# Altium footprint library Connectors.PcbLib: 8 footprints
Each footprint in its own frame and in the unit in brackets; x right, y up, seen from the top. Pads: shape width x height; smd on the part's side, far side on the other; paste and mask are expansions set on the pad; w line width, h text height; cw(c..) or ccw(c..) is an arc to the next point about the centre after c.
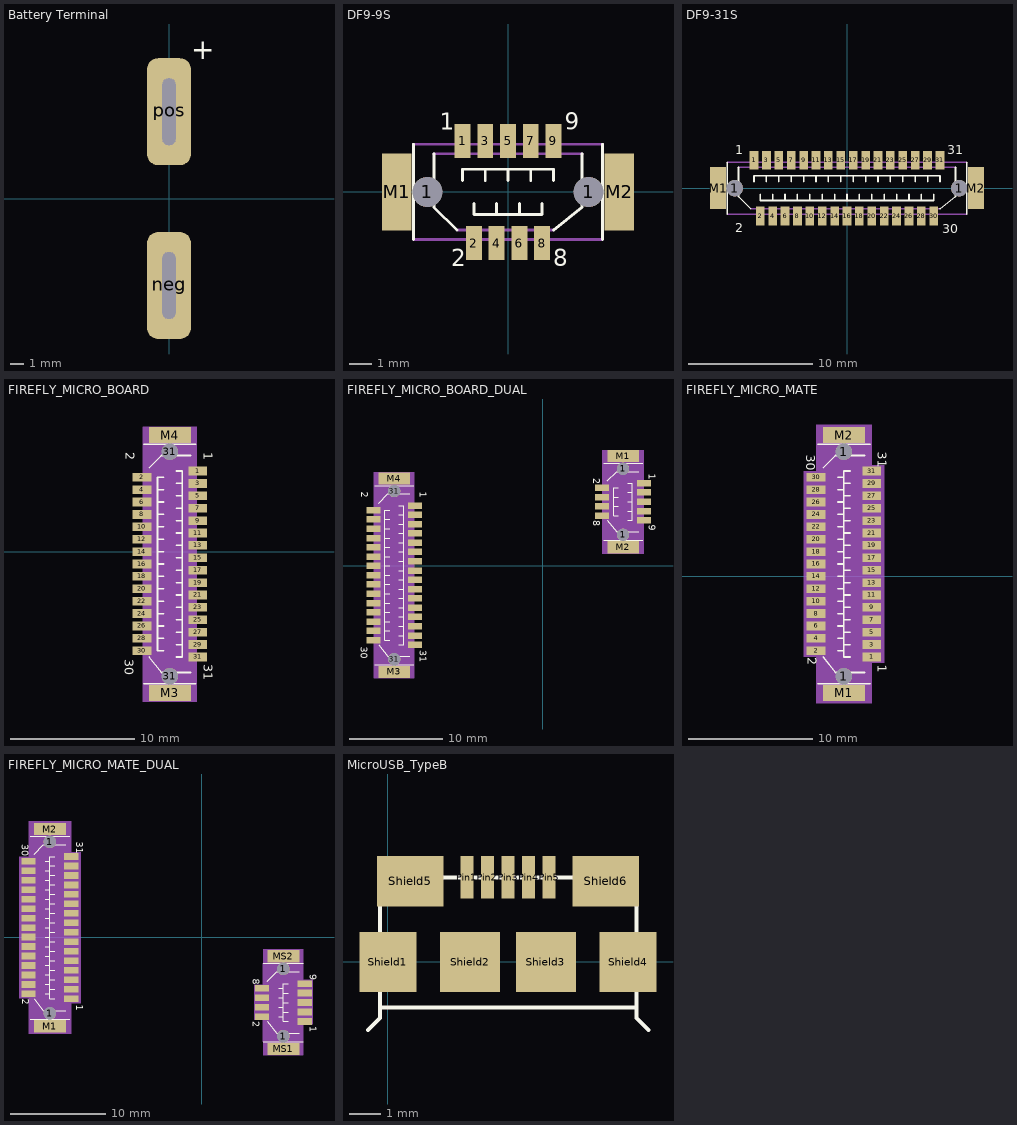
[diagram p0: the footprints below, top view; thin cyan lines are the x and y axes]

## Battery Terminal [mm] "Battery terminal for the firefly case"
pads (2):
  rrect50% 3.3x8 hole 1 slot 5 at 90 deg: neg(0,-6.5) pos(0,6.5)
Top Overlay:
  text "+" at 1.651,10.414 h1.52

## DF9-9S [mil]
pads (13):
  round 52 hole 52: 1(-139.76,0) 1(139.76,0)
  rect 27.56x59.06 smd: 1(-78.74,88.58) 2(-59.06,-88.58) 3(-39.37,88.58) 4(-19.69,-88.58) 5(0,88.58) 6(19.69,-88.58) 7(39.37,88.58) 8(59.06,-88.58) 9(78.74,88.58)
  rect 51.18x133.86 smd: M1(-192.91,0) M2(192.91,0)
Top Overlay:
  lines w5: -163.39,-82.68 -163.39,82.68 ; -127.95,66.14 -127.95,-26.77 -88.58,-66.14 ; -78.74,19.69 -78.74,39.37 -39.37,39.37 ; -59.06,-19.69 -59.06,-39.37 -19.69,-39.37 ; -39.37,19.69 -39.37,39.37 ; -19.69,-19.69 -19.69,-39.37 ; 0,19.69 0,39.37 ; 19.69,-19.69 19.69,-39.37 ; 39.37,19.69 39.37,39.37 ; 59.06,-19.69 59.06,-39.37 19.69,-39.37 ; 78.74,-66.14 127.95,-26.77 127.95,66.14 ; 78.74,19.69 78.74,39.37 39.37,39.37 ; 163.39,-82.68 163.39,82.68 ; -39.37,39.37 0,39.37 ; -19.69,-39.37 19.69,-39.37 ; 0,39.37 39.37,39.37
  text "1" at -118.11,98.43 h49.6
  text "2" at -98.43,-137.8 h49.6
  text "8" at 78.74,-137.8 h49.6
  text "9" at 98.43,98.43 h49.6
Mechanical 16:
  lines w5: -163.39,-82.68 163.39,-82.68 ; -163.39,82.68 163.39,82.68 ; -127.95,66.14 127.95,66.14 ; -88.58,-66.14 78.74,-66.14

## DF9-31S [mm]
pads (35):
  round 1.321 hole 1.321: 1(-9.05,0) 1(9.05,0)
  rect 0.7x1.5 smd: 1(-7.5,2.25) 2(-7,-2.25) 3(-6.5,2.25) 4(-6,-2.25) 5(-5.5,2.25) 6(-5,-2.25) 7(-4.5,2.25) 8(-4,-2.25) 9(-3.5,2.25) 10(-3,-2.25) 11(-2.5,2.25) 12(-2,-2.25) 13(-1.5,2.25) 14(-1,-2.25) 15(-0.5,2.25) 16(0,-2.25) 17(0.5,2.25) 18(1,-2.25) 19(1.5,2.25) 20(2,-2.25) 21(2.5,2.25) 22(3,-2.25) 23(3.5,2.25) 24(4,-2.25) 25(4.5,2.25) 26(5,-2.25) 27(5.5,2.25) 28(6,-2.25) 29(6.5,2.25) 30(7,-2.25) 31(7.5,2.25)
  rect 1.3x3.4 smd: M1(-10.4,0) M2(10.4,0)
Top Overlay:
  lines w0.127: -9.65,-2.1 -9.65,2.1 ; -8.75,1.68 -8.75,-0.68 -7.75,-1.68 ; -7.5,0.5 -7.5,1 -6.5,1 ; -7,-0.5 -7,-1 -6,-1 ; -6.5,0.5 -6.5,1 ; -6,-0.5 -6,-1 ; -5.5,0.5 -5.5,1 ; -5,-0.5 -5,-1 ; -4.5,0.5 -4.5,1 ; -4,-0.5 -4,-1 ; -3.5,0.5 -3.5,1 ; -3,-0.5 -3,-1 ; -2.5,0.5 -2.5,1 ; -2,-0.5 -2,-1 ; -1.5,0.5 -1.5,1 ; -1,-0.5 -1,-1 ; -0.5,0.5 -0.5,1 ; 0,-0.5 0,-1 ; 0.5,0.5 0.5,1 ; 1,-0.5 1,-1 ; 1.5,0.5 1.5,1 ; 2,-0.5 2,-1 ; 2.5,0.5 2.5,1 ; 3,-0.5 3,-1 ; 3.5,0.5 3.5,1 ; 4,-0.5 4,-1 ; 4.5,0.5 4.5,1 ; 5,-0.5 5,-1 ; 5.5,0.5 5.5,1 ; 6,-0.5 6,-1 ; 6.5,0.5 6.5,1 ; 7,-0.5 7,-1 6,-1 ; 7.5,-1.68 8.75,-0.68 8.75,1.68 ; 7.5,0.5 7.5,1 6.5,1 ; 9.65,-2.1 9.65,2.1 ; -6.5,1 -5.5,1 ; -6,-1 -5,-1 ; -5.5,1 -4.5,1 ; -5,-1 -4,-1 ; -4.5,1 -3.5,1 ; -4,-1 -3,-1 ; -3.5,1 -2.5,1 ; -3,-1 -2,-1 ; -2.5,1 -1.5,1 ; -2,-1 -1,-1 ; -1.5,1 -0.5,1 ; -1,-1 0,-1 ; -0.5,1 0.5,1 ; 0,-1 1,-1 ; 0.5,1 1.5,1 ; 1,-1 2,-1 ; 1.5,1 2.5,1 ; 2,-1 3,-1 ; 2.5,1 3.5,1 ; 3,-1 4,-1 ; 3.5,1 4.5,1 ; 4,-1 5,-1 ; 4.5,1 5.5,1 ; 5,-1 6,-1 ; 5.5,1 6.5,1
  text "31" at 8.1,2.5 h1.26
  text "30" at 7.7,-3.9 h1.26
  text "2" at -9,-3.8 h1.26
  text "1" at -9,2.5 h1.26
Mechanical 16:
  lines w0.127: -9.65,-2.1 9.65,-2.1 ; -9.65,2.1 9.65,2.1 ; -8.75,1.68 8.75,1.68 ; -7.75,-1.68 7.5,-1.68

## FIREFLY_MICRO_BOARD [mil]
pads (35):
  rect 59.06x27.56 smd: 1(-541.67,255.86) 2(-718.83,236.17) 3(-541.67,216.49) 4(-718.83,196.8) 5(-541.67,177.12) 6(-718.83,157.43) 7(-541.67,137.75) 8(-718.83,118.06) 9(-541.67,98.38) 10(-718.83,78.69) 11(-541.67,59.01) 12(-718.83,39.32) 13(-541.67,19.64) 14(-718.83,-0.05) 15(-541.67,-19.73) 16(-718.83,-39.42) 17(-541.67,-59.1) 18(-718.83,-78.79) 19(-541.67,-98.47) 20(-718.83,-118.16) 21(-541.67,-137.84) 22(-718.83,-157.53) 23(-541.67,-177.21) 24(-718.83,-196.9) 25(-541.67,-216.58) 26(-718.83,-236.27) 27(-541.67,-255.95) 28(-718.83,-275.64) 29(-541.67,-295.32) 30(-718.83,-315.01) 31(-541.67,-334.69)
  round 52 hole 52: 31(-630.25,-395.72) 31(-630.25,316.88)
  rect 133.86x51.18 smd: M3(-630.25,-448.87) M4(-630.25,370.03)
Top Overlay:
  lines w5: -712.93,-419.34 -547.57,-419.34 ; -712.93,340.5 -547.57,340.5 ; -696.39,-334.69 -657.02,-383.91 -564.11,-383.91 ; -696.39,265.7 -657.02,305.07 -564.11,305.07 ; -649.94,-315.01 -669.62,-315.01 -669.62,-275.64 ; -649.94,-275.64 -669.62,-275.64 ; -649.94,-236.27 -669.62,-236.27 ; -649.94,-196.9 -669.62,-196.9 ; -649.94,-157.53 -669.62,-157.53 ; -649.94,-118.16 -669.62,-118.16 ; -649.94,-78.79 -669.62,-78.79 ; -649.94,-39.42 -669.62,-39.42 ; -649.94,-0.05 -669.62,-0.05 ; -649.94,39.32 -669.62,39.32 ; -649.94,78.69 -669.62,78.69 ; -649.94,118.06 -669.62,118.06 ; -649.94,157.43 -669.62,157.43 ; -649.94,196.8 -669.62,196.8 ; -649.94,236.17 -669.62,236.17 -669.62,196.8 ; -610.57,-334.69 -590.88,-334.69 -590.88,-295.32 ; -610.57,-295.32 -590.88,-295.32 ; -610.57,-255.95 -590.88,-255.95 ; -610.57,-216.58 -590.88,-216.58 ; -610.57,-177.21 -590.88,-177.21 ; -610.57,-137.84 -590.88,-137.84 ; -610.57,-98.47 -590.88,-98.47 ; -610.57,-59.1 -590.88,-59.1 ; -610.57,-19.73 -590.88,-19.73 ; -610.57,19.64 -590.88,19.64 ; -610.57,59.01 -590.88,59.01 ; -610.57,98.38 -590.88,98.38 ; -610.57,137.75 -590.88,137.75 ; -610.57,177.12 -590.88,177.12 ; -610.57,216.49 -590.88,216.49 ; -610.57,255.86 -590.88,255.86 -590.88,216.49 ; -669.62,-275.64 -669.62,-236.27 ; -669.62,-236.27 -669.62,-196.9 ; -669.62,-196.9 -669.62,-157.53 ; -669.62,-157.53 -669.62,-118.16 ; -669.62,-118.16 -669.62,-78.79 ; -669.62,-78.79 -669.62,-39.42 ; -669.62,-39.42 -669.62,-0.05 ; -669.62,-0.05 -669.62,39.32 ; -669.62,39.32 -669.62,78.69 ; -669.62,78.69 -669.62,118.06 ; -669.62,118.06 -669.62,157.43 ; -669.62,157.43 -669.62,196.8 ; -590.88,-295.32 -590.88,-255.95 ; -590.88,-255.95 -590.88,-216.58 ; -590.88,-216.58 -590.88,-177.21 ; -590.88,-177.21 -590.88,-137.84 ; -590.88,-137.84 -590.88,-98.47 ; -590.88,-98.47 -590.88,-59.1 ; -590.88,-59.1 -590.88,-19.73 ; -590.88,-19.73 -590.88,19.64 ; -590.88,19.64 -590.88,59.01 ; -590.88,59.01 -590.88,98.38 ; -590.88,98.38 -590.88,137.75 ; -590.88,137.75 -590.88,177.12 ; -590.88,177.12 -590.88,216.49
  text "1" at -531.83,314.91 h49.6
  text "2" at -779.86,314.91 h49.6
  text "30" at -783.8,-342.57 h49.6
  text "31" at -531.83,-358.32 h49.6
Mechanical 16:
  lines w5: -712.93,-419.34 -712.93,340.5 ; -696.39,-334.69 -696.39,265.7 ; -564.11,-383.91 -564.11,305.07 ; -547.57,-419.34 -547.57,340.5
Mechanical 27:
  rectangle: -717.24,-477.02 -544.01,396.99
3D body "DF9-31S-1V.stp": height 129.92, standoff -31.5, extent -740.49,-453.87 -520.02,376.84

## FIREFLY_MICRO_BOARD_DUAL [mil]
pads (48):
  rect 59.06x27.56 smd: 1(-541.67,255.86) 2(-718.83,236.17) 3(-541.67,216.49) 4(-718.83,196.8) 5(-541.67,177.12) 6(-718.83,157.43) 7(-541.67,137.75) 8(-718.83,118.06) 9(-541.67,98.38) 10(-718.83,78.69) 11(-541.67,59.01) 12(-718.83,39.32) 13(-541.67,19.64) 14(-718.83,-0.05) 15(-541.67,-19.73) 16(-718.83,-39.42) 17(-541.67,-59.1) 18(-718.83,-78.79) 19(-541.67,-98.47) 20(-718.83,-118.16) 21(-541.67,-137.84) 22(-718.83,-157.53) 23(-541.67,-177.21) 24(-718.83,-196.9) 25(-541.67,-216.58) 26(-718.83,-236.27) 27(-541.67,-255.95) 28(-718.83,-275.64) 29(-541.67,-295.32) 30(-718.83,-315.01) 31(-541.67,-334.69) P1(428.11,350.66) P2(250.94,330.98) P3(428.11,311.29) P4(250.94,291.61) P5(428.11,271.92) P6(250.94,252.24) P7(428.11,232.55) P8(250.94,212.87) P9(428.11,193.18)
  round 52 hole 52: 1(339.53,132.16) 1(339.53,411.69) 31(-630.25,-395.72) 31(-630.25,316.88)
  rect 133.86x51.18 smd: M1(339.53,464.83) M2(339.53,79.01) M3(-630.25,-448.87) M4(-630.25,370.03)
Top Overlay:
  lines w5: -712.93,-419.34 -547.57,-419.34 ; -712.93,340.5 -547.57,340.5 ; -696.39,-334.69 -657.02,-383.91 -564.11,-383.91 ; -696.39,265.7 -657.02,305.07 -564.11,305.07 ; -649.94,-315.01 -669.62,-315.01 -669.62,-275.64 ; -649.94,-275.64 -669.62,-275.64 ; -649.94,-236.27 -669.62,-236.27 ; -649.94,-196.9 -669.62,-196.9 ; -649.94,-157.53 -669.62,-157.53 ; -649.94,-118.16 -669.62,-118.16 ; -649.94,-78.79 -669.62,-78.79 ; -649.94,-39.42 -669.62,-39.42 ; -649.94,-0.05 -669.62,-0.05 ; -649.94,39.32 -669.62,39.32 ; -649.94,78.69 -669.62,78.69 ; -649.94,118.06 -669.62,118.06 ; -649.94,157.43 -669.62,157.43 ; -649.94,196.8 -669.62,196.8 ; -649.94,236.17 -669.62,236.17 -669.62,196.8 ; -610.57,-334.69 -590.88,-334.69 -590.88,-295.32 ; -610.57,-295.32 -590.88,-295.32 ; -610.57,-255.95 -590.88,-255.95 ; -610.57,-216.58 -590.88,-216.58 ; -610.57,-177.21 -590.88,-177.21 ; -610.57,-137.84 -590.88,-137.84 ; -610.57,-98.47 -590.88,-98.47 ; -610.57,-59.1 -590.88,-59.1 ; -610.57,-19.73 -590.88,-19.73 ; -610.57,19.64 -590.88,19.64 ; -610.57,59.01 -590.88,59.01 ; -610.57,98.38 -590.88,98.38 ; -610.57,137.75 -590.88,137.75 ; -610.57,177.12 -590.88,177.12 ; -610.57,216.49 -590.88,216.49 ; -610.57,255.86 -590.88,255.86 -590.88,216.49 ; 256.85,108.54 422.2,108.54 ; 256.85,435.31 422.2,435.31 ; 273.39,193.18 312.76,143.97 405.67,143.97 ; 273.39,360.5 312.76,399.87 405.67,399.87 ; 319.84,212.87 300.16,212.87 300.16,252.24 ; 319.84,252.24 300.16,252.24 ; 319.84,291.61 300.16,291.61 ; 319.84,330.98 300.16,330.98 300.16,291.61 ; 359.21,193.18 378.9,193.18 378.9,232.55 ; 359.21,232.55 378.9,232.55 ; 359.21,271.92 378.9,271.92 ; 359.21,311.29 378.9,311.29 ; 359.21,350.66 378.9,350.66 378.9,311.29 ; -669.62,-275.64 -669.62,-236.27 ; -669.62,-236.27 -669.62,-196.9 ; -669.62,-196.9 -669.62,-157.53 ; -669.62,-157.53 -669.62,-118.16 ; -669.62,-118.16 -669.62,-78.79 ; -669.62,-78.79 -669.62,-39.42 ; -669.62,-39.42 -669.62,-0.05 ; -669.62,-0.05 -669.62,39.32 ; -669.62,39.32 -669.62,78.69 ; -669.62,78.69 -669.62,118.06 ; -669.62,118.06 -669.62,157.43 ; -669.62,157.43 -669.62,196.8 ; -590.88,-295.32 -590.88,-255.95 ; -590.88,-255.95 -590.88,-216.58 ; -590.88,-216.58 -590.88,-177.21 ; -590.88,-177.21 -590.88,-137.84 ; -590.88,-137.84 -590.88,-98.47 ; -590.88,-98.47 -590.88,-59.1 ; -590.88,-59.1 -590.88,-19.73 ; -590.88,-19.73 -590.88,19.64 ; -590.88,19.64 -590.88,59.01 ; -590.88,59.01 -590.88,98.38 ; -590.88,98.38 -590.88,137.75 ; -590.88,137.75 -590.88,177.12 ; -590.88,177.12 -590.88,216.49 ; 300.16,252.24 300.16,291.61 ; 378.9,232.55 378.9,271.92 ; 378.9,271.92 378.9,311.29
  text "1" at -531.83,314.91 h49.6
  text "2" at -779.86,314.91 h49.6
  text "30" at -783.8,-342.57 h49.6
  text "31" at -531.83,-358.32 h49.6
  text "1" at 437.95,390.03 h49.6
  text "2" at 201.73,370.35 h49.6
  text "8" at 201.73,193.18 h49.6
  text "9" at 437.95,173.5 h49.6
Mechanical 16:
  lines w5: -712.93,-419.34 -712.93,340.5 ; -696.39,-334.69 -696.39,265.7 ; -564.11,-383.91 -564.11,305.07 ; -547.57,-419.34 -547.57,340.5 ; 256.85,108.54 256.85,435.31 ; 273.39,193.18 273.39,360.5 ; 405.67,143.97 405.67,399.87 ; 422.2,108.54 422.2,435.31
Mechanical 27:
  rectangle: -717.24,-477.02 -544.01,396.99
  rectangle: 251.27,50.54 428.43,491.48
3D body "DF9-31S-1V.stp": height 129.92, standoff -31.5, extent -740.47,-455.36 -520,375.36
3D body "DF9-9S-1V.stp": height 129.92, standoff -39.37, extent 230,72.36 450.47,470

## FIREFLY_MICRO_MATE [mil]
pads (35):
  round 52 hole 52: 1(-630.25,-316.8) 1(-630.25,395.8)
  rect 59.06x27.56 smd: 1(-541.67,-255.78) 2(-718.83,-236.09) 3(-541.67,-216.41) 4(-718.83,-196.72) 5(-541.67,-177.04) 6(-718.83,-157.35) 7(-541.67,-137.67) 8(-718.83,-117.98) 9(-541.67,-98.3) 10(-718.83,-78.61) 11(-541.67,-58.93) 12(-718.83,-39.24) 13(-541.67,-19.56) 14(-718.83,0.13) 15(-541.67,19.81) 16(-718.83,39.5) 17(-541.67,59.18) 18(-718.83,78.87) 19(-541.67,98.55) 20(-718.83,118.24) 21(-541.67,137.92) 22(-718.83,157.61) 23(-541.67,177.29) 24(-718.83,196.98) 25(-541.67,216.66) 26(-718.83,236.35) 27(-541.67,256.03) 28(-718.83,275.72) 29(-541.67,295.4) 30(-718.83,315.09) 31(-541.67,334.77)
  rect 133.86x51.18 smd: M1(-630.25,-369.95) M2(-630.25,448.94)
Top Overlay:
  lines w5: -712.93,-340.43 -547.57,-340.43 ; -712.93,419.42 -547.57,419.42 ; -696.39,-255.78 -657.02,-304.99 -564.11,-304.99 ; -696.39,344.61 -657.02,383.98 -564.11,383.98 ; -649.94,-236.09 -630.25,-236.09 ; -649.94,-196.72 -630.25,-196.72 ; -649.94,-157.35 -630.25,-157.35 ; -649.94,-117.98 -630.25,-117.98 ; -649.94,-78.61 -630.25,-78.61 ; -649.94,-39.24 -630.25,-39.24 ; -649.94,0.13 -630.25,0.13 ; -649.94,39.5 -630.25,39.5 ; -649.94,78.87 -630.25,78.87 ; -649.94,118.24 -630.25,118.24 ; -649.94,157.61 -630.25,157.61 ; -649.94,196.98 -630.25,196.98 ; -649.94,236.35 -630.25,236.35 ; -649.94,275.72 -630.25,275.72 ; -649.94,315.09 -630.25,315.09 ; -610.57,-255.78 -630.25,-255.78 -630.25,-236.09 ; -610.57,-216.41 -630.25,-216.41 ; -610.57,-177.04 -630.25,-177.04 ; -610.57,-137.67 -630.25,-137.67 ; -610.57,-98.3 -630.25,-98.3 ; -610.57,-58.93 -630.25,-58.93 ; -610.57,-19.56 -630.25,-19.56 ; -610.57,19.81 -630.25,19.81 ; -610.57,59.18 -630.25,59.18 ; -610.57,98.55 -630.25,98.55 ; -610.57,137.92 -630.25,137.92 ; -610.57,177.29 -630.25,177.29 ; -610.57,216.66 -630.25,216.66 ; -610.57,256.03 -630.25,256.03 ; -610.57,295.4 -630.25,295.4 ; -610.57,334.77 -630.25,334.77 -630.25,315.09 ; -630.25,-236.09 -630.25,-216.41 ; -630.25,-216.41 -630.25,-196.72 ; -630.25,-196.72 -630.25,-177.04 ; -630.25,-177.04 -630.25,-157.35 ; -630.25,-157.35 -630.25,-137.67 ; -630.25,-137.67 -630.25,-117.98 ; -630.25,-117.98 -630.25,-98.3 ; -630.25,-98.3 -630.25,-78.61 ; -630.25,-78.61 -630.25,-58.93 ; -630.25,-58.93 -630.25,-39.24 ; -630.25,-39.24 -630.25,-19.56 ; -630.25,-19.56 -630.25,0.13 ; -630.25,0.13 -630.25,19.81 ; -630.25,19.81 -630.25,39.5 ; -630.25,39.5 -630.25,59.18 ; -630.25,59.18 -630.25,78.87 ; -630.25,78.87 -630.25,98.55 ; -630.25,98.55 -630.25,118.24 ; -630.25,118.24 -630.25,137.92 ; -630.25,137.92 -630.25,157.61 ; -630.25,157.61 -630.25,177.29 ; -630.25,177.29 -630.25,196.98 ; -630.25,196.98 -630.25,216.66 ; -630.25,216.66 -630.25,236.35 ; -630.25,236.35 -630.25,256.03 ; -630.25,256.03 -630.25,275.72 ; -630.25,275.72 -630.25,295.4 ; -630.25,295.4 -630.25,315.09
  text "1" at -531.83,-281.17 h49.6
  text "2" at -754.86,-256.17 h49.6
  text "30" at -758.8,386.35 h49.6
  text "31" at -531.83,395.6 h49.6
Mechanical 16:
  lines w5: -712.93,-340.43 -712.93,419.42 ; -696.39,-255.78 -696.39,344.61 ; -564.11,-304.99 -564.11,383.98 ; -547.57,-340.43 -547.57,419.42
Mechanical 27:
  rectangle: -718.5,-403.5 -541.34,482.32
  rectangle: -757.87,-255.87 -718.5,334.69
  rectangle: -541.34,-275.55 -501.97,354.37
3D body "DF9-31P-1V.stp": height 129.92, standoff -31.5, extent -740.24,-375.71 -519.76,455

## FIREFLY_MICRO_MATE_DUAL [mil]
pads (48):
  round 52 hole 52: 1(-630.25,-316.8) 1(-630.25,395.8) 1(339.53,-411.61) 1(339.53,-132.08)
  rect 59.06x27.56 smd: 1(-541.67,-255.78) 2(-718.83,-236.09) 3(-541.67,-216.41) 4(-718.83,-196.72) 5(-541.67,-177.04) 6(-718.83,-157.35) 7(-541.67,-137.67) 8(-718.83,-117.98) 9(-541.67,-98.3) 10(-718.83,-78.61) 11(-541.67,-58.93) 12(-718.83,-39.24) 13(-541.67,-19.56) 14(-718.83,0.13) 15(-541.67,19.81) 16(-718.83,39.5) 17(-541.67,59.18) 18(-718.83,78.87) 19(-541.67,98.55) 20(-718.83,118.24) 21(-541.67,137.92) 22(-718.83,157.61) 23(-541.67,177.29) 24(-718.83,196.98) 25(-541.67,216.66) 26(-718.83,236.35) 27(-541.67,256.03) 28(-718.83,275.72) 29(-541.67,295.4) 30(-718.83,315.09) 31(-541.67,334.77) S1(428.11,-350.58) S2(250.94,-330.9) S3(428.11,-311.21) S4(250.94,-291.53) S5(428.11,-271.84) S6(250.94,-252.16) S7(428.11,-232.47) S8(250.94,-212.79) S9(428.11,-193.1)
  rect 133.86x51.18 smd: M1(-630.25,-369.95) M2(-630.25,448.94) MS1(339.53,-464.76) MS2(339.53,-78.93)
Top Overlay:
  lines w5: -712.93,-340.43 -547.57,-340.43 ; -712.93,419.42 -547.57,419.42 ; -696.39,-255.78 -657.02,-304.99 -564.11,-304.99 ; -696.39,344.61 -657.02,383.98 -564.11,383.98 ; -649.94,-236.09 -630.25,-236.09 ; -649.94,-196.72 -630.25,-196.72 ; -649.94,-157.35 -630.25,-157.35 ; -649.94,-117.98 -630.25,-117.98 ; -649.94,-78.61 -630.25,-78.61 ; -649.94,-39.24 -630.25,-39.24 ; -649.94,0.13 -630.25,0.13 ; -649.94,39.5 -630.25,39.5 ; -649.94,78.87 -630.25,78.87 ; -649.94,118.24 -630.25,118.24 ; -649.94,157.61 -630.25,157.61 ; -649.94,196.98 -630.25,196.98 ; -649.94,236.35 -630.25,236.35 ; -649.94,275.72 -630.25,275.72 ; -649.94,315.09 -630.25,315.09 ; -610.57,-255.78 -630.25,-255.78 -630.25,-236.09 ; -610.57,-216.41 -630.25,-216.41 ; -610.57,-177.04 -630.25,-177.04 ; -610.57,-137.67 -630.25,-137.67 ; -610.57,-98.3 -630.25,-98.3 ; -610.57,-58.93 -630.25,-58.93 ; -610.57,-19.56 -630.25,-19.56 ; -610.57,19.81 -630.25,19.81 ; -610.57,59.18 -630.25,59.18 ; -610.57,98.55 -630.25,98.55 ; -610.57,137.92 -630.25,137.92 ; -610.57,177.29 -630.25,177.29 ; -610.57,216.66 -630.25,216.66 ; -610.57,256.03 -630.25,256.03 ; -610.57,295.4 -630.25,295.4 ; -610.57,334.77 -630.25,334.77 -630.25,315.09 ; 256.85,-435.23 422.2,-435.23 ; 256.85,-108.46 422.2,-108.46 ; 273.39,-350.58 312.76,-399.8 405.67,-399.8 ; 273.39,-183.26 312.76,-143.89 405.67,-143.89 ; 319.84,-330.9 339.53,-330.9 ; 319.84,-291.53 339.53,-291.53 ; 319.84,-252.16 339.53,-252.16 ; 319.84,-212.79 339.53,-212.79 ; 359.21,-350.58 339.53,-350.58 339.53,-330.9 ; 359.21,-311.21 339.53,-311.21 ; 359.21,-271.84 339.53,-271.84 ; 359.21,-232.47 339.53,-232.47 ; 359.21,-193.1 339.53,-193.1 339.53,-212.79 ; -630.25,-236.09 -630.25,-216.41 ; -630.25,-216.41 -630.25,-196.72 ; -630.25,-196.72 -630.25,-177.04 ; -630.25,-177.04 -630.25,-157.35 ; -630.25,-157.35 -630.25,-137.67 ; -630.25,-137.67 -630.25,-117.98 ; -630.25,-117.98 -630.25,-98.3 ; -630.25,-98.3 -630.25,-78.61 ; -630.25,-78.61 -630.25,-58.93 ; -630.25,-58.93 -630.25,-39.24 ; -630.25,-39.24 -630.25,-19.56 ; -630.25,-19.56 -630.25,0.13 ; -630.25,0.13 -630.25,19.81 ; -630.25,19.81 -630.25,39.5 ; -630.25,39.5 -630.25,59.18 ; -630.25,59.18 -630.25,78.87 ; -630.25,78.87 -630.25,98.55 ; -630.25,98.55 -630.25,118.24 ; -630.25,118.24 -630.25,137.92 ; -630.25,137.92 -630.25,157.61 ; -630.25,157.61 -630.25,177.29 ; -630.25,177.29 -630.25,196.98 ; -630.25,196.98 -630.25,216.66 ; -630.25,216.66 -630.25,236.35 ; -630.25,236.35 -630.25,256.03 ; -630.25,256.03 -630.25,275.72 ; -630.25,275.72 -630.25,295.4 ; -630.25,295.4 -630.25,315.09 ; 339.53,-330.9 339.53,-311.21 ; 339.53,-311.21 339.53,-291.53 ; 339.53,-291.53 339.53,-271.84 ; 339.53,-271.84 339.53,-252.16 ; 339.53,-252.16 339.53,-232.47 ; 339.53,-232.47 339.53,-212.79
  text "1" at -531.83,-281.17 h49.6
  text "2" at -754.86,-256.17 h49.6
  text "30" at -758.8,386.35 h49.6
  text "31" at -531.83,395.6 h49.6
  text "1" at 437.95,-370.27 h49.6
  text "2" at 201.73,-350.58 h49.6
  text "8" at 201.73,-173.42 h49.6
  text "9" at 437.95,-153.73 h49.6
Mechanical 16:
  lines w5: -712.93,-340.43 -712.93,419.42 ; -696.39,-255.78 -696.39,344.61 ; -564.11,-304.99 -564.11,383.98 ; -547.57,-340.43 -547.57,419.42 ; 256.85,-435.23 256.85,-108.46 ; 273.39,-350.58 273.39,-183.26 ; 405.67,-399.8 405.67,-143.89 ; 422.2,-435.23 422.2,-108.46
Mechanical 27:
  rectangle: -718.5,-403.5 -541.34,482.32
  rectangle: -757.87,-255.87 -718.5,334.69
  rectangle: -541.34,-275.55 -501.97,354.37
  rectangle: 255.91,-492.09 423.23,-49.17
  rectangle: 216.54,-344.45 255.91,-196.81
  rectangle: 423.23,-364.13 462.6,-177.13
3D body "DF9-31P-1V.stp": height 129.92, standoff -31.5, extent -740.24,-375.71 -519.76,455
3D body "DF9-9P-1V.stp": height 129.92, standoff -39.37, extent 230,-472.63 450.47,-75

## MicroUSB_TypeB [mm]
pads (11):
  rect 0.4x1.35 smd: Pin1(2.5,2.675) Pin2(3.15,2.675) Pin3(3.8,2.675) Pin4(4.45,2.675) Pin5(5.1,2.675)
  rect 1.8x1.9 smd: Shield1(0,0) Shield4(7.6,0)
  rect 1.9x1.9 smd: Shield2(2.6,0) Shield3(5,0)
  rect 2.1x1.6 smd: Shield5(0.7,2.55) Shield6(6.9,2.55)
Top Overlay:
  lines w0.125: -0.635,-2.159 -0.254,-1.778 -0.254,-1.45 ; 7.866,2.667 -0.254,2.667 -0.254,-1.45 ; 7.874,2.675 7.874,-1.45 ; 8.255,-2.159 7.874,-1.778 7.874,-1.45 ; -0.254,-1.45 7.874,-1.45
3D body "473460001.stp": height 2.72, standoff -0.22, extent -0.18,-2.399 7.8,3.031